# Altium schematic symbol library PTS526_SM15_SMTR2_LFS.SchLib: 1 symbol
Pins are listed as number, name and electrical type; pins without a type are passive.

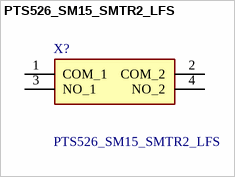
[diagram p0: symbol PTS526_SM15_SMTR2_LFS]

## PTS526_SM15_SMTR2_LFS
designator X?
Tactile Switches 50mA 12VDC, 5.2x5.2mm, 1.5mm H, 160gf, G leads, No ground pin, metal actuator; Manufacturer_Name: C & K COMPONENTS; Manufacturer_Part_Number: PTS526 SM15 SMTR2 LFS; Mouser Part Number: 611-PTS526SM15SMTR2L; Mouser Price/Stock: https://www.mouser.co.uk/ProductDetail/CK/PTS526-SM15-SMTR2-LFS?qs=UXgszm6BlbENivbslIA%252B5g%3D%3D; Datasheet Link: *; Geometry.Height: 1.5mm
footprint PTS526SM15SMTR2LFS
pins: 1 COM_1, 2 COM_2, 3 NO_1, 4 NO_2